# Altium schematic symbol library RES_VAR_DEFAULT.SchLib: 1 symbol
Pins are listed as number, name and electrical type; pins without a type are passive.

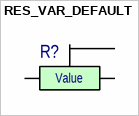
[diagram p0: symbol RES_VAR_DEFAULT]

## RES_VAR_DEFAULT
designator R?
Value: Value
pins: 1 "CCW", 2 "WIPER", 3 "CW"
1 alternate drawing of the same symbol